# Altium schematic symbol library Main.SchLib: 1 symbol
Pins are listed as number, name and electrical type; pins without a type are passive.

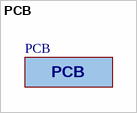
[diagram p0: symbol PCB]

## PCB
designator PCB
Printed CIrcuit Board; LatestRevisionDate: 17-Jul-2002; LatestRevisionNote: Re-released for DXP Platform.; Publisher: Altium Limited
footprint FIDUCIAL (Footprint not found)